# Altium schematic symbol library TBP01R2-508-04BE.SchLib: 1 symbol
Pins are listed as number, name and electrical type; pins without a type are passive.

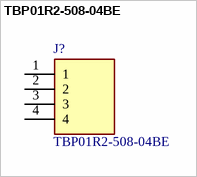
[diagram p0: symbol TBP01R2-508-04BE]

## TBP01R2-508-04BE
designator J?
TBP01R2-508 Series - 2~24 Poles, Pluggable, Receptacle, Vertical, 5.08 Pitch, Terminal Block Connector; Manufacturer_Name: Same Sky; Geometry.Height: 12mm; Mouser Part Number: 490-TBP01R2-508-04BE; Mouser Price/Stock: https://www.mouser.co.uk/ProductDetail/CUI-Devices/TBP01R2-508-04BE?qs=PzGy0jfpSMt81U9Qkgbf1g%3D%3D; Manufacturer_Part_Number: TBP01R2-508-04BE; Datasheet Link: https://www.sameskydevices.com/product/resource/tbp01r2-508.pdf
footprint SHDR4W100P0X508_1X4_2192X850X1200P
pins: 1, 2, 3, 4